# Altium footprint library Bourns.PcbLib: 1 footprints
Each footprint in its own frame and in the unit in brackets; x right, y up, seen from the top. Pads: shape width x height; smd on the part's side, far side on the other; paste and mask are expansions set on the pad; w line width, h text height; cw(c..) or ccw(c..) is an arc to the next point about the centre after c.
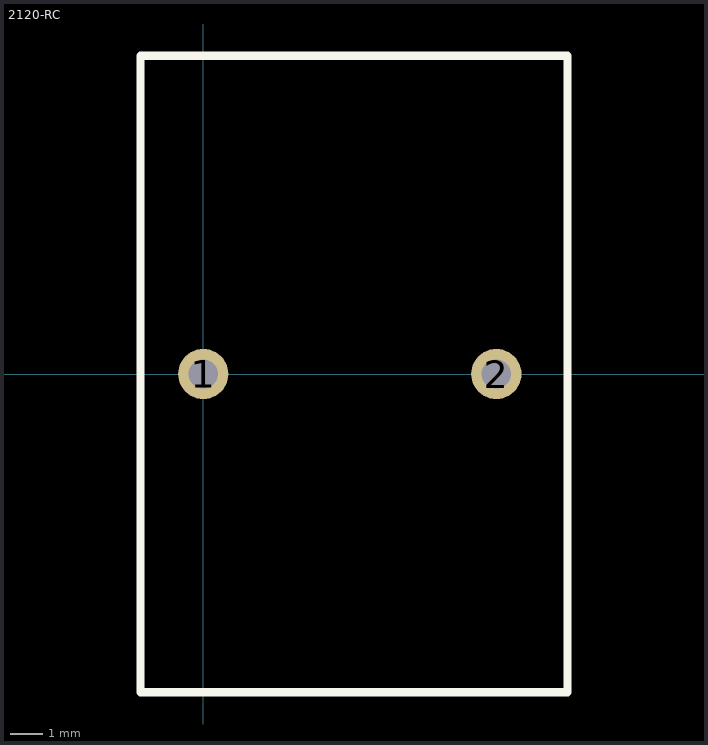
[diagram p0: the footprint, top view; thin cyan lines are the x and y axes]

## 2120-RC [mil] "Bourne Inductor Footprint"
pads (2):
  round 60 hole 35: 1(0,0) 2(350,0)
Top Overlay:
  lines w10: -75,-380 -75,0 -75,380 435,380 435,-375 435,-380 -75,-380
3D body: height 777, standoff 20, extent -10,-383.5 340,375